# Altium footprint library LED.PcbLib: 55 footprints (part 3 of 4)
Each footprint in its own frame and in the unit in brackets; x right, y up, seen from the top. Pads: shape width x height; smd on the part's side, far side on the other; paste and mask are expansions set on the pad; w line width, h text height; cw(c..) or ccw(c..) is an arc to the next point about the centre after c.
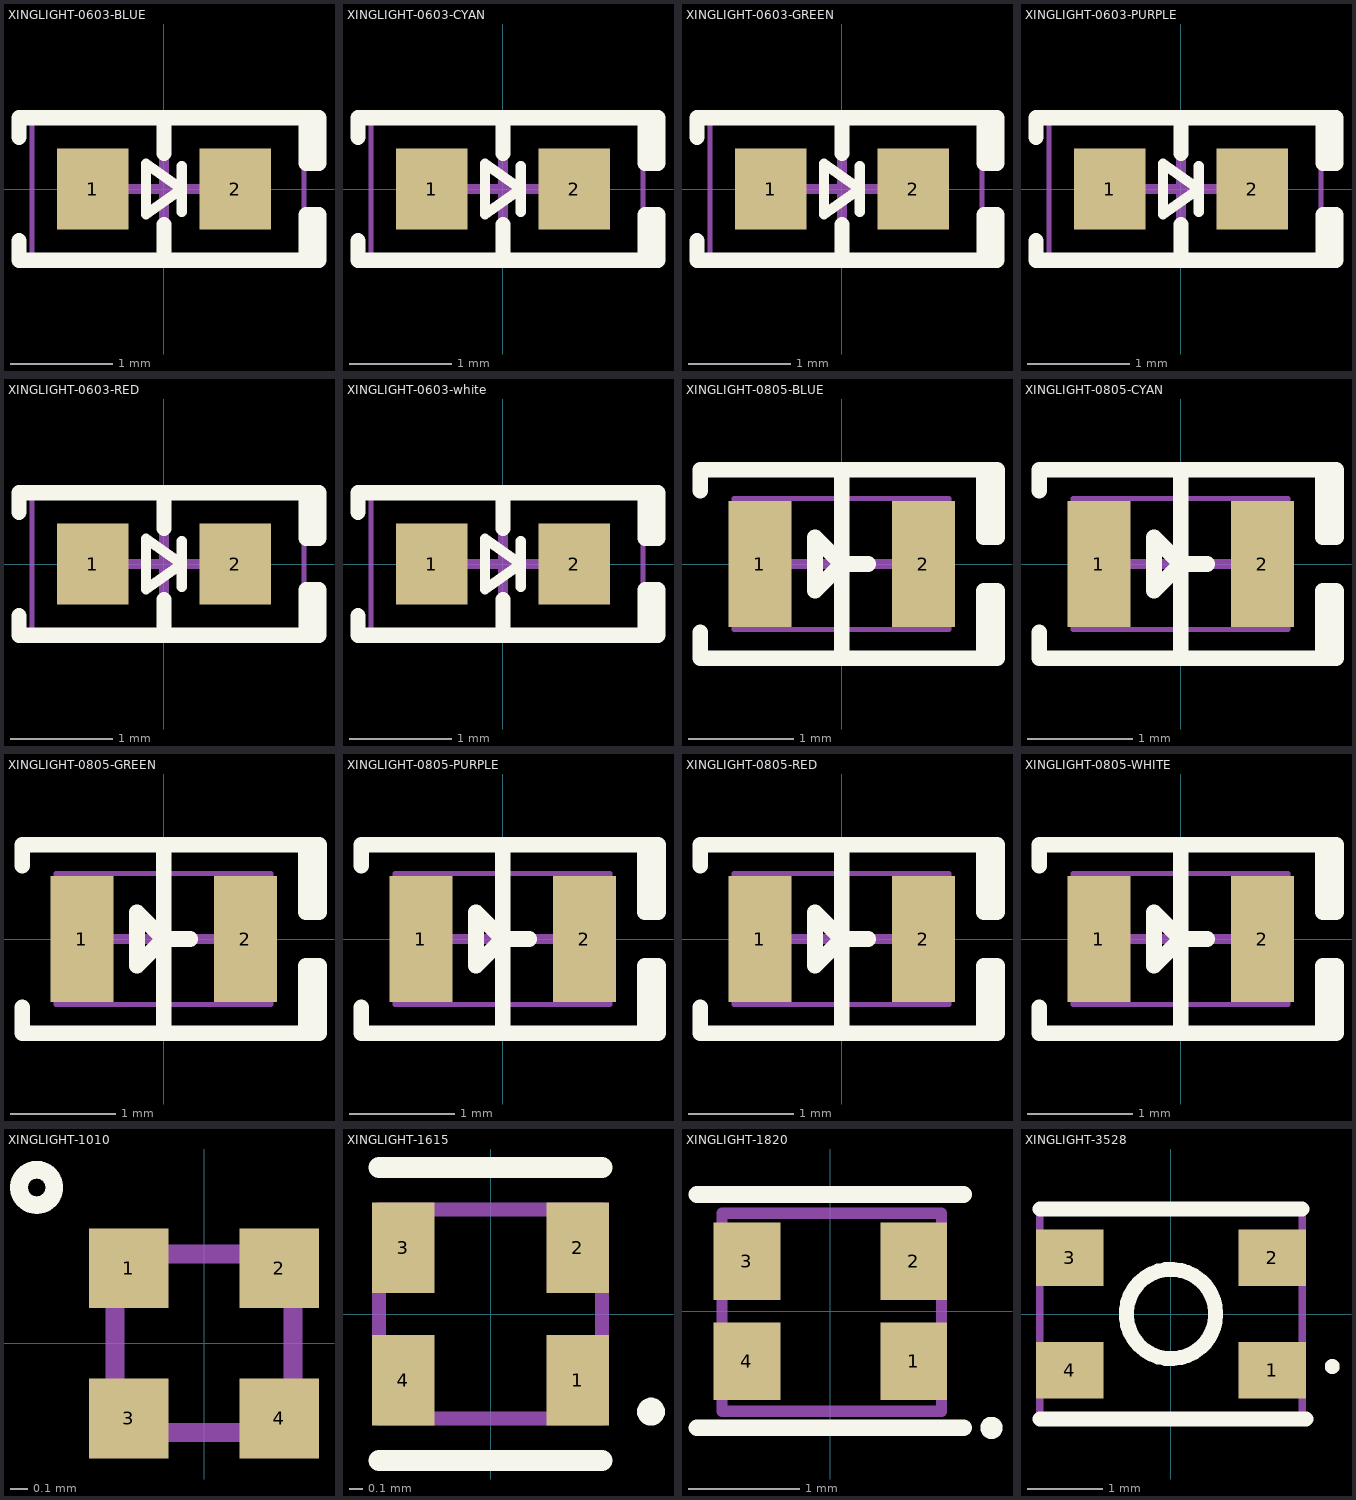
[diagram p2: the footprints below, top view; thin cyan lines are the x and y axes]

## XINGLIGHT-0603-BLUE [mm] "XINGLIGHT(成兴光) 0603 LED封装 蓝色"
pads (2):
  rect 0.7x0.8 smd: 1(-0.7,0) 2(0.7,0)
Top Overlay:
  lines w0.1: 0.175,-0.225 0.175,0 ; 0.175,0.225 0.175,0 ; 0.175,0 -0.175,-0.25 -0.175,0 -0.175,0.25 0.175,0
  lines w0.15: -1.425,-0.7 1.5,-0.7 ; -1.425,0.7 1.5,0.7 ; -1.424,-0.7 -1.424,-0.508 ; -1.424,0.508 -1.424,0.7 ; 0,-0.7 0,-0.35 ; 0,0.35 0,0.7 ; 1.397,-0.7 1.397,-0.254 1.524,-0.254 1.524,-0.7 1.397,-0.7 ; 1.397,0.254 1.397,0.7 1.524,0.7 1.524,0.254 1.397,0.254
Mechanical 15:
  lines w0.05: -1.397,-0.75 1.375,-0.75 1.375,0.75 -1.397,0.75 ; -1.297,-0.75 -1.297,0.75
  lines w0.1: -0.475,0 0.475,0 ; 0,-0.475 0,0.475
3D body "LED0603 blue.STEP": height 0.6, standoff 0, extent -0.81,-0.4 0.81,0.4

## XINGLIGHT-0603-CYAN [mm] "XINGLIGHT(成兴光) 0603 LED封装 青色"
pads (2):
  rect 0.7x0.8 smd: 1(-0.7,0) 2(0.7,0)
Top Overlay:
  lines w0.1: 0.175,-0.225 0.175,0 ; 0.175,0.225 0.175,0 ; 0.175,0 -0.175,-0.25 -0.175,0 -0.175,0.25 0.175,0
  lines w0.15: -1.425,-0.7 1.5,-0.7 ; -1.425,0.7 1.5,0.7 ; -1.424,-0.7 -1.424,-0.508 ; -1.424,0.508 -1.424,0.7 ; 0,-0.7 0,-0.35 ; 0,0.35 0,0.7 ; 1.397,-0.7 1.397,-0.254 1.524,-0.254 1.524,-0.7 1.397,-0.7 ; 1.397,0.254 1.397,0.7 1.524,0.7 1.524,0.254 1.397,0.254
Mechanical 15:
  lines w0.05: -1.397,-0.75 1.375,-0.75 1.375,0.75 -1.397,0.75 ; -1.297,-0.75 -1.297,0.75
  lines w0.1: -0.475,0 0.475,0 ; 0,-0.475 0,0.475
3D body "LED0603 cyan.STEP": height 0.6, standoff 0, extent -0.81,-0.4 0.81,0.4

## XINGLIGHT-0603-GREEN [mm] "XINGLIGHT(成兴光) 0603 LED封装 绿色"
pads (2):
  rect 0.7x0.8 smd: 1(-0.7,0) 2(0.7,0)
Top Overlay:
  lines w0.1: 0.175,-0.225 0.175,0 ; 0.175,0.225 0.175,0 ; 0.175,0 -0.175,0.25 -0.175,0 -0.175,-0.25 0.175,0
  lines w0.15: -1.425,-0.7 1.5,-0.7 ; -1.425,0.7 1.5,0.7 ; -1.424,-0.7 -1.424,-0.508 ; -1.424,0.508 -1.424,0.7 ; 0,-0.7 0,-0.35 ; 0,0.35 0,0.7 ; 1.397,-0.7 1.524,-0.7 1.524,-0.254 1.397,-0.254 1.397,-0.7 ; 1.397,0.254 1.524,0.254 1.524,0.7 1.397,0.7 1.397,0.254
Mechanical 15:
  lines w0.05: -1.397,-0.75 1.375,-0.75 1.375,0.75 -1.397,0.75 ; -1.297,-0.75 -1.297,0.75
  lines w0.1: -0.475,0 0.475,0 ; 0,-0.475 0,0.475
3D body "LED0603 green.STEP": height 0.6, standoff 0, extent -0.81,-0.4 0.81,0.4

## XINGLIGHT-0603-PURPLE [mm] "XINGLIGHT(成兴光) 0603 LED封装 紫色"
pads (2):
  rect 0.7x0.8 smd: 1(-0.7,0) 2(0.7,0)
Top Overlay:
  lines w0.1: 0.175,-0.225 0.175,0 ; 0.175,0.225 0.175,0 ; 0.175,0 -0.175,-0.25 -0.175,0 -0.175,0.25 0.175,0
  lines w0.15: -1.425,-0.7 1.5,-0.7 ; -1.425,0.7 1.5,0.7 ; -1.424,-0.7 -1.424,-0.508 ; -1.424,0.508 -1.424,0.7 ; 0,-0.7 0,-0.35 ; 0,0.35 0,0.7 ; 1.397,-0.7 1.397,-0.254 1.524,-0.254 1.524,-0.7 1.397,-0.7 ; 1.397,0.254 1.397,0.7 1.524,0.7 1.524,0.254 1.397,0.254
Mechanical 15:
  lines w0.05: -1.397,-0.75 1.375,-0.75 1.375,0.75 -1.397,0.75 ; -1.297,-0.75 -1.297,0.75
  lines w0.1: -0.475,0 0.475,0 ; 0,-0.475 0,0.475
3D body "LED0603 purple.STEP": height 0.6, standoff 0, extent -0.81,-0.4 0.81,0.4

## XINGLIGHT-0603-RED [mm] "XINGLIGHT(成兴光) 0603 LED封装 红色"
pads (2):
  rect 0.7x0.8 smd: 1(-0.7,0) 2(0.7,0)
Top Overlay:
  lines w0.1: 0.175,-0.225 0.175,0 ; 0.175,0.225 0.175,0 ; 0.175,0 -0.175,0.25 -0.175,0 -0.175,-0.25 0.175,0
  lines w0.15: -1.425,-0.7 1.5,-0.7 ; -1.425,0.7 1.5,0.7 ; -1.424,-0.7 -1.424,-0.508 ; -1.424,0.508 -1.424,0.7 ; 0,-0.7 0,-0.35 ; 0,0.35 0,0.7 ; 1.397,-0.7 1.524,-0.7 1.524,-0.254 1.397,-0.254 1.397,-0.7 ; 1.397,0.254 1.524,0.254 1.524,0.7 1.397,0.7 1.397,0.254
Mechanical 15:
  lines w0.05: -1.397,-0.75 1.375,-0.75 1.375,0.75 -1.397,0.75 ; -1.297,-0.75 -1.297,0.75
  lines w0.1: -0.475,0 0.475,0 ; 0,-0.475 0,0.475
3D body "LED0603 red.STEP": height 0.6, standoff 0, extent -0.81,-0.4 0.81,0.4

## XINGLIGHT-0603-white [mm] "XINGLIGHT(成兴光) 0603 LED封装 白色"
pads (2):
  rect 0.7x0.8 smd: 1(-0.7,0) 2(0.7,0)
Top Overlay:
  lines w0.1: 0.175,-0.225 0.175,0 ; 0.175,0.225 0.175,0 ; 0.175,0 -0.175,-0.25 -0.175,0 -0.175,0.25 0.175,0
  lines w0.15: -1.425,-0.7 1.5,-0.7 ; -1.425,0.7 1.5,0.7 ; -1.424,-0.7 -1.424,-0.508 ; -1.424,0.508 -1.424,0.7 ; 0,-0.7 0,-0.35 ; 0,0.35 0,0.7 ; 1.397,-0.7 1.397,-0.254 1.524,-0.254 1.524,-0.7 1.397,-0.7 ; 1.397,0.254 1.397,0.7 1.524,0.7 1.524,0.254 1.397,0.254
Mechanical 15:
  lines w0.05: -1.397,-0.75 1.375,-0.75 1.375,0.75 -1.397,0.75 ; -1.297,-0.75 -1.297,0.75
  lines w0.1: -0.475,0 0.475,0 ; 0,-0.475 0,0.475
3D body "LED0603 white.STEP": height 0.6, standoff 0, extent -0.81,-0.4 0.81,0.4

## XINGLIGHT-0805-BLUE [mm] "XINGLIGHT(成兴光) 0805 LED封装 蓝色"
pads (2):
  rect 0.6x1.2 smd: 1(-0.78,0) 2(0.78,0)
Top Overlay:
  lines w0.15: -1.35,-0.65 -1.35,-0.9 1.425,-0.9 ; -1.35,0.7 -1.35,0.9 1.4,0.9 ; 0,-0.9 0,0.9 ; 0.254,0 0,0 ; 0,0 -0.254,0.254 -0.254,-0.254 0,0 ; 1.355,-0.9 1.482,-0.9 1.482,-0.254 1.355,-0.254 1.355,-0.9 ; 1.355,0.254 1.355,0.9 1.482,0.9 1.482,0.254 1.355,0.254
Mechanical 15:
  lines w0.05: -1.025,-0.625 -1.025,0.625 1.025,0.625 1.025,-0.625 -1.025,-0.625
  lines w0.1: -0.5,0 0.5,0 ; 0,-0.5 0,0.5
3D body "LED0805_blue.STEP": height 1.1, standoff 0, extent -1.01,-0.625 1.01,0.625

## XINGLIGHT-0805-CYAN [mm] "XINGLIGHT(成兴光) 0805 LED封装 青色"
pads (2):
  rect 0.6x1.2 smd: 1(-0.78,0) 2(0.78,0)
Top Overlay:
  lines w0.15: -1.35,-0.65 -1.35,-0.9 1.425,-0.9 ; -1.35,0.7 -1.35,0.9 1.4,0.9 ; 0,-0.9 0,0.9 ; 0.254,0 0,0 ; 0,0 -0.254,0.254 -0.254,-0.254 0,0 ; 1.355,-0.9 1.482,-0.9 1.482,-0.254 1.355,-0.254 1.355,-0.9 ; 1.355,0.254 1.355,0.9 1.482,0.9 1.482,0.254 1.355,0.254
Mechanical 15:
  lines w0.05: -1.025,-0.625 -1.025,0.625 1.025,0.625 1.025,-0.625 -1.025,-0.625
  lines w0.1: -0.5,0 0.5,0 ; 0,-0.5 0,0.5
3D body "LED0805 cyan.STEP": height 1.1, standoff 0, extent -1.01,-0.625 1.01,0.625

## XINGLIGHT-0805-GREEN [mm] "XINGLIGHT(成兴光) 0805 LED封装 绿色"
pads (2):
  rect 0.6x1.2 smd: 1(-0.78,0) 2(0.78,0)
Top Overlay:
  lines w0.15: -1.35,-0.65 -1.35,-0.9 1.425,-0.9 ; -1.35,0.7 -1.35,0.9 1.4,0.9 ; 0,-0.9 0,0.9 ; 0.254,0 0,0 ; 0,0 -0.254,-0.254 -0.254,0.254 0,0 ; 1.355,-0.9 1.355,-0.254 1.482,-0.254 1.482,-0.9 1.355,-0.9 ; 1.355,0.254 1.482,0.254 1.482,0.9 1.355,0.9 1.355,0.254
Mechanical 15:
  lines w0.05: -1.025,-0.625 1.025,-0.625 1.025,0.625 -1.025,0.625 -1.025,-0.625
  lines w0.1: -0.5,0 0.5,0 ; 0,-0.5 0,0.5
3D body "LED0805_green.STEP": height 1.1, standoff 0, extent -1.01,-0.625 1.01,0.625

## XINGLIGHT-0805-PURPLE [mm] "XINGLIGHT(成兴光) 0805 LED封装 紫色"
pads (2):
  rect 0.6x1.2 smd: 1(-0.78,0) 2(0.78,0)
Top Overlay:
  lines w0.15: -1.35,-0.65 -1.35,-0.9 1.425,-0.9 ; -1.35,0.7 -1.35,0.9 1.4,0.9 ; 0,-0.9 0,0.9 ; 0.254,0 0,0 ; 0,0 -0.254,0.254 -0.254,-0.254 0,0 ; 1.355,-0.9 1.482,-0.9 1.482,-0.254 1.355,-0.254 1.355,-0.9 ; 1.355,0.254 1.355,0.9 1.482,0.9 1.482,0.254 1.355,0.254
Mechanical 15:
  lines w0.05: -1.025,-0.625 -1.025,0.625 1.025,0.625 1.025,-0.625 -1.025,-0.625
  lines w0.1: -0.5,0 0.5,0 ; 0,-0.5 0,0.5
3D body "LED0805 purple.STEP": height 1.1, standoff 0, extent -1.01,-0.625 1.01,0.625

## XINGLIGHT-0805-RED [mm] "XINGLIGHT(成兴光) 0805 LED封装 红色"
pads (2):
  rect 0.6x1.2 smd: 1(-0.78,0) 2(0.78,0)
Top Overlay:
  lines w0.15: -1.35,-0.65 -1.35,-0.9 1.425,-0.9 ; -1.35,0.7 -1.35,0.9 1.4,0.9 ; 0,-0.9 0,0.9 ; 0.254,0 0,0 ; 0,0 -0.254,0.254 -0.254,-0.254 0,0 ; 1.355,-0.9 1.482,-0.9 1.482,-0.254 1.355,-0.254 1.355,-0.9 ; 1.355,0.254 1.355,0.9 1.482,0.9 1.482,0.254 1.355,0.254
Mechanical 15:
  lines w0.05: -1.025,-0.625 -1.025,0.625 1.025,0.625 1.025,-0.625 -1.025,-0.625
  lines w0.1: -0.5,0 0.5,0 ; 0,-0.5 0,0.5
3D body "LED0805_red.STEP": height 1.1, standoff 0, extent -1.01,-0.625 1.01,0.625

## XINGLIGHT-0805-WHITE [mm] "XINGLIGHT(成兴光) 0805 LED封装 白色"
pads (2):
  rect 0.6x1.2 smd: 1(-0.78,0) 2(0.78,0)
Top Overlay:
  lines w0.15: -1.35,-0.65 -1.35,-0.9 1.425,-0.9 ; -1.35,0.7 -1.35,0.9 1.4,0.9 ; 0,-0.9 0,0.9 ; 0.254,0 0,0 ; 0,0 -0.254,-0.254 -0.254,0.254 0,0 ; 1.355,-0.9 1.355,-0.254 1.482,-0.254 1.482,-0.9 1.355,-0.9 ; 1.355,0.254 1.482,0.254 1.482,0.9 1.355,0.9 1.355,0.254
Mechanical 15:
  lines w0.05: -1.025,-0.625 1.025,-0.625 1.025,0.625 -1.025,0.625 -1.025,-0.625
  lines w0.1: -0.5,0 0.5,0 ; 0,-0.5 0,0.5
3D body "LED0805 white.STEP": height 1.1, standoff 0, extent -1.01,-0.625 1.01,0.625

## XINGLIGHT-1010 [mm] "XINGLIGHT(成兴光) SMD1010 推荐焊盘"
pads (4):
  rect 0.45x0.45 smd mask+0.05: 1(-0.425,0.425) 2(0.425,0.425) 3(-0.425,-0.425) 4(0.425,-0.425)
Top Overlay:
  lines w0.1: -0.946,0.781 cw(c-0.946,0.881) -0.946,0.981 cw(c-0.946,0.881) -0.946,0.781
Mechanical 13:
  lines w0.1: -0.5,-0.5 0.5,-0.5 0.5,0.5 -0.5,0.5 -0.5,-0.5
Mechanical 15:
  lines w0.1: -0.508,-0.508 0.508,-0.508 0.508,0.508 -0.508,0.508 -0.508,-0.508
3D body "WS2812B-1010.STEP": height 0.8, standoff 0, extent -0.5,-0.5 0.5,0.5

## XINGLIGHT-1615 [mm] "XINGLIGHT(成兴光) SMD1615 推荐焊盘 白色"
pads (4):
  rect 0.45x0.65 smd mask+0.05: 1(0.625,-0.475) 2(0.625,0.475) 3(-0.625,0.475) 4(-0.625,-0.475)
Top Overlay:
  lines w0.1: 1.1,-0.7 ccw(c1.15,-0.7) 1.2,-0.7 ccw(c1.15,-0.7) 1.1,-0.7
  lines w0.15: -0.8,-1.05 0.8,-1.05 ; -0.8,1.05 0.8,1.05
Mechanical 13:
  lines w0.1: -0.8,-0.75 -0.8,0.75 0.8,0.75 0.8,-0.75 -0.8,-0.75
Mechanical 15:
  lines w0.1: -0.8,-0.75 -0.8,0.75 0.8,0.75 0.8,-0.75 -0.8,-0.75
3D body "WS2812B-1615.STEP": height 0.58, standoff 0, extent -0.8,-0.75 0.8,0.75

## XINGLIGHT-1820 [mm] "XINGLIGHT(成兴光) SMD1820 0807 推荐焊盘 白色"
pads (4):
  rect 0.6x0.7 smd mask+0.05: 1(0.75,-0.45) 2(0.75,0.45) 3(-0.75,0.45) 4(-0.75,-0.45)
Top Overlay:
  lines w0.1: 1.4,-1.05 cw(c1.45,-1.05) 1.5,-1.05 cw(c1.45,-1.05) 1.4,-1.05
  lines w0.15: -1.2,-1.05 1.2,-1.05 ; -1.2,1.05 1.2,1.05
Mechanical 13:
  lines w0.1: -0.975,-0.9 1,-0.9 1,0.882 -0.975,0.882 -0.975,-0.9
Mechanical 15:
  lines w0.1: -0.975,-0.9 1,-0.9 1,0.882 -0.975,0.882 -0.975,-0.9
3D body "WS2812B-1820.STEP": height 0.84, standoff 0, extent -1,-0.9 1,0.9

## XINGLIGHT-3528 [mm] "XINGLIGHT(成兴光) SMD3528 推荐焊盘 白色"
pads (4):
  rect 0.9x0.75 smd: 1(1.35,-0.75) 2(1.35,0.75) 3(-1.35,0.75) 4(-1.35,-0.75)
Top Overlay:
  circle w0.2: c0,0 r0.596
  lines w0.1: 2.1,-0.7 ccw(c2.15,-0.7) 2.2,-0.7 ; 2.1,-0.7 cw(c2.15,-0.7) 2.2,-0.7 ; 2.1,-0.7 ccw(c2.15,-0.7) 2.2,-0.7
  lines w0.2: -1.75,-1.4 1.8,-1.4 ; -1.75,1.4 1.75,1.4
Mechanical 13:
  lines w0.1: -1.75,-1.4 -1.75,1.4 1.75,1.4 1.75,-1.4 -1.75,-1.4
Mechanical 15:
  lines w0.1: -1.75,-1.4 -1.75,1.4 1.75,1.4 1.75,-1.4 -1.75,-1.4
3D body "WS2812B-3528.step": height 1.9, standoff -0.02, extent -1.89,-1.4 1.89,1.4